# EAGLE library part USBLC6 (library X893)
USBLC6-2SC6 <http://www.terraelectronica.ru/pdf/ST/USBLC6-2SC6.pdf>
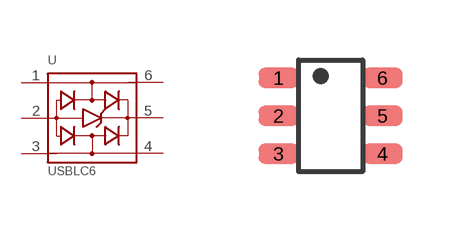
[diagram p67: symbol with the pads of SOT23-6; footprint SOT23-6]

Designator prefix U

## USBLC6-2SC6  [SOT23-6]
1  IO1  pas
2  GND  pas
3  IO2  pas
4  IO2  pas
5  VBUS  pas
6  IO1  pas

## Footprint SOT23-6 (pad centres in mm)
smd 1 x 0.5: 1 -1.3,0.95; 2 -1.3,0; 3 -1.3,-0.95; 4 1.3,-0.95; 5 1.3,0; 6 1.3,0.95